# EAGLE library part 255-403-5 (library con-wago255)
WAGO
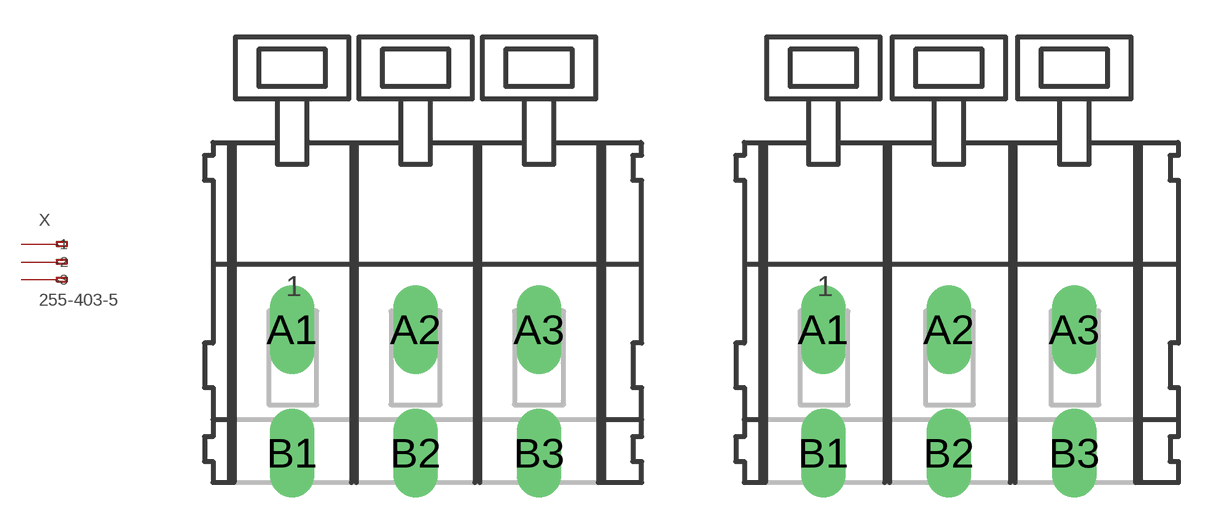
[diagram p78: symbol with the pads of 255-403-5; footprints 255-403-5, 255-403-508]

Designator prefix X

## 255-403-5 (OC_FARNELL: unknown; OC_NEWARK: unknown)  [255-403-5]
A1  -1  pas
A2  -2  pas
A3  -3  pas
B1  B-1  pas
B2  B-2  pas
B3  B-3  pas

## 255-403-508 (OC_FARNELL: unknown; OC_NEWARK: unknown)  [255-403-508]
Pads as for 255-403-5

## Footprint 255-403-5 (pad centres in mm)
Grid 5.0 mm
drill 1.2 long: A1 -2.5,0; A2 2.5,0; A3 7.5,0; B1 -2.5,-5; B2 2.5,-5; B3 7.5,-5

## Footprint 255-403-508 (pad centres in mm)
Grid 5.0 mm
drill 1.2 long: A1 -2.54,0; A2 2.54,0; A3 7.62,0; B1 -2.54,-5; B2 2.54,-5; B3 7.62,-5